# EAGLE library part 61301825721 (library Board-to-Board (rev18a))
WR-PHD 2.54mm Dual Socket Header Bottom Entry, 18 Pins =>Code : Con_BTB_SHD_2.54_2_61301825721 <http://katalog.we-online.de/media/images/eican/Con_BTB_SHD_2.54_2_6130xx25721_pf2.jpg> Details see: http://katalog.we-online.de/en/em/613_0xx_257_21 Created 2014-05-30, Karrer Zheng 2014 (C) Würth Elektronik
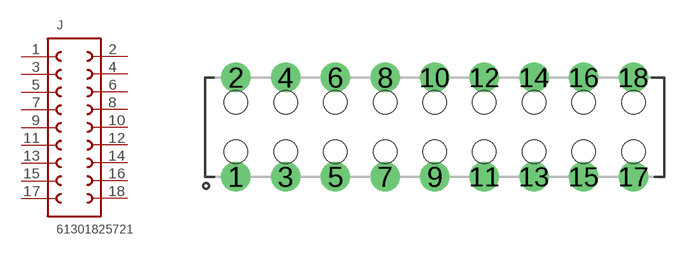
[diagram p156: symbol with the pads of 61301825721; footprint 61301825721]

Designator prefix J

## 61301825721  [61301825721]
1  1  pas
2  18  pas
3  2  pas
4  17  pas
5  3  pas
6  16  pas
7  4  pas
8  15  pas
9  5  pas
10  14  pas
11  6  pas
12  13  pas
13  7  pas
14  12  pas
15  8  pas
16  11  pas
17  9  pas
18  10  pas

## Footprint 61301825721 (pad centres in mm)
WR-PHD 2.54mm Dual Socket Header Bottom Entry, 18 Pins
drill 1 pad 1.4: 1 -10.16,-2.54; 2 -10.16,2.54; 3 -7.62,-2.54; 4 -7.62,2.54; 5 -5.08,-2.54; 6 -5.08,2.54; 7 -2.54,-2.54; 8 -2.54,2.54; 9 0,-2.54; 10 0,2.54; 11 2.54,-2.54; 12 2.54,2.54; 13 5.08,-2.54; 14 5.08,2.54; 15 7.62,-2.54; 16 7.62,2.54; 17 10.16,-2.54; 18 10.16,2.54
hole 1.2 at -10.16,1.27
hole 1.2 at -7.62,1.27
hole 1.2 at -7.62,-1.27
hole 1.2 at -10.16,-1.27
hole 1.2 at -5.08,-1.27
hole 1.2 at -5.08,1.27
hole 1.2 at -2.54,1.27
hole 1.2 at -2.54,-1.27
hole 1.2 at 0,1.27
hole 1.2 at 0,-1.27
hole 1.2 at 2.54,-1.27
hole 1.2 at 2.54,1.27
hole 1.2 at 5.08,1.27
hole 1.2 at 5.08,-1.27
hole 1.2 at 7.62,-1.27
hole 1.2 at 7.62,1.27
hole 1.2 at 10.16,-1.27
hole 1.2 at 10.16,1.27